# EAGLE library part LSF0204RGYR (library FaBo-LevelTranslator)
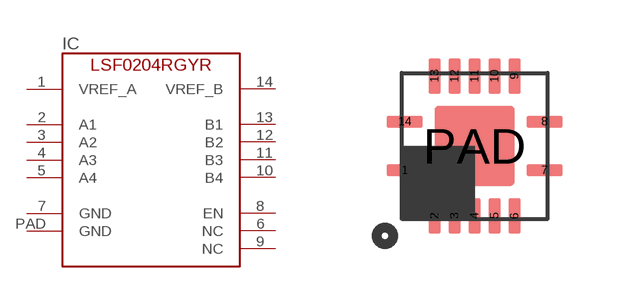
[diagram p1: symbol with the pads of VQFN-14; footprint VQFN-14]

Designator prefix IC

## LSF0204RGYR  [VQFN-14]
1  VREF_A
2  A1
3  A2
4  A3
5  A4
6  NC
7  GND
8  EN
9  NC
10  B4
11  B3
12  B2
13  B1
14  VREF_B
PAD  GND

## Footprint VQFN-14 (pad centres in mm)
smd 0.9 x 0.3: 1 -1.75,-0.61; 7 1.75,-0.61; 8 1.75,0.61; 14 -1.75,0.61
smd 0.3 x 0.9: 2 -1,-1.75; 3 -0.5,-1.75; 4 0,-1.75; 5 0.5,-1.75; 6 1,-1.75; 9 1,1.75; 10 0.5,1.75; 11 0,1.75; 12 -0.5,1.75; 13 -1,1.75
smd 2 x 2: PAD 0,0